# Altium footprint library SEAM-20-03P0-S-04-1-A-K-TR.PcbLib: 1 footprints
Each footprint in its own frame and in the unit in brackets; x right, y up, seen from the top. Pads: shape width x height; smd on the part's side, far side on the other; paste and mask are expansions set on the pad; w line width, h text height; cw(c..) or ccw(c..) is an arc to the next point about the centre after c.
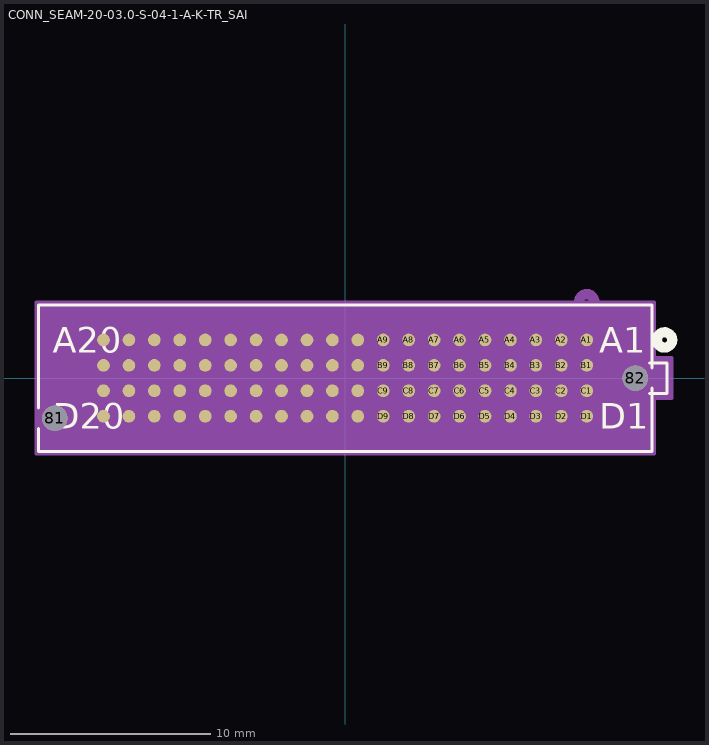
[diagram p0: the footprint, top view; thin cyan lines are the x and y axes]

## CONN_SEAM-20-03.0-S-04-1-A-K-TR_SAI [mil]
pads (82):
  round 50 / inner round 60 / far side round 50 hole 50 unplated paste-99999 mask-25: 81(-570.5,-79) 82(570.5,0)
  round 25 smd paste+0 mask+0: A1(475,75) A2(425,75) A3(375,75) A4(325,75) A5(275,75) A6(225,75) A7(175,75) A8(125,75) A9(75,75) A10(25,75) A11(-25,75) A12(-75,75) A13(-125,75) A14(-175,75) A15(-225,75) A16(-275,75) A17(-325,75) A18(-375,75) A19(-425,75) A20(-475,75) B1(475,25) B2(425,25) B3(375,25) B4(325,25) B5(275,25) B6(225,25) B7(175,25) B8(125,25) B9(75,25) B10(25,25) B11(-25,25) B12(-75,25) B13(-125,25) B14(-175,25) B15(-225,25) B16(-275,25) B17(-325,25) B18(-375,25) B19(-425,25) B20(-475,25) C1(475,-25) C2(425,-25) C3(375,-25) C4(325,-25) C5(275,-25) C6(225,-25) C7(175,-25) C8(125,-25) C9(75,-25) C10(25,-25) C11(-25,-25) C12(-75,-25) C13(-125,-25) C14(-175,-25) C15(-225,-25) C16(-275,-25) C17(-325,-25) C18(-375,-25) C19(-425,-25) C20(-475,-25) D1(475,-75) D2(425,-75) D3(375,-75) D4(325,-75) D5(275,-75) D6(225,-75) D7(175,-75) D8(125,-75) D9(75,-75) D10(25,-75) D11(-25,-75) D12(-75,-75) D13(-125,-75) D14(-175,-75) D15(-225,-75) D16(-275,-75) D17(-325,-75) D18(-375,-75) D19(-425,-75) D20(-475,-75)
Top Overlay:
  circle w20: c628,75 r15
  lines w6: -603,-98.88 -603,-144 603,-144 603,-19.88 ; -603,-59.12 -603,144 603,144 603,19.88 ; 598,-30 633,-30 633,30 598,30
  text "D20" at -575,-100 h50
  text "A20" at -575,50 h50
  text "D1" at 500,-100 h50
  text "A1" at 500,50 h50
Bottom Overlay:
  circle w20: c628,75 r15
  text "D20" at -500,-100 h50
  text "A20" at -500,50 h50
  text "D1" at 550,-100 h50
  text "A1" at 550,50 h50
Mechanical 13:
  circle w20: c475,150 r15
  lines w1: 598,-30 633,-30 633,30 598,30 ; -598,-139 -598,139 598,139 598,-139 -598,-139
  text "D20" at -575,-100 h50
  text "A20" at -575,50 h50
  text "D1" at 500,-100 h50
  text "A1" at 500,50 h50
Mechanical 15:
  region: 643,40 608,40 608,149 -608,149 -608,-149 608,-149 608,-40 643,-40
  lines w6: -608,-149 608,-149 608,-40 643,-40 643,40 608,40 608,149 -608,149 -608,-149